# Altium footprint library Library.PcbLib: 22 footprints (part 2 of 2)
Each footprint in its own frame and in the unit in brackets; x right, y up, seen from the top. Pads: shape width x height; smd on the part's side, far side on the other; paste and mask are expansions set on the pad; w line width, h text height; cw(c..) or ccw(c..) is an arc to the next point about the centre after c.
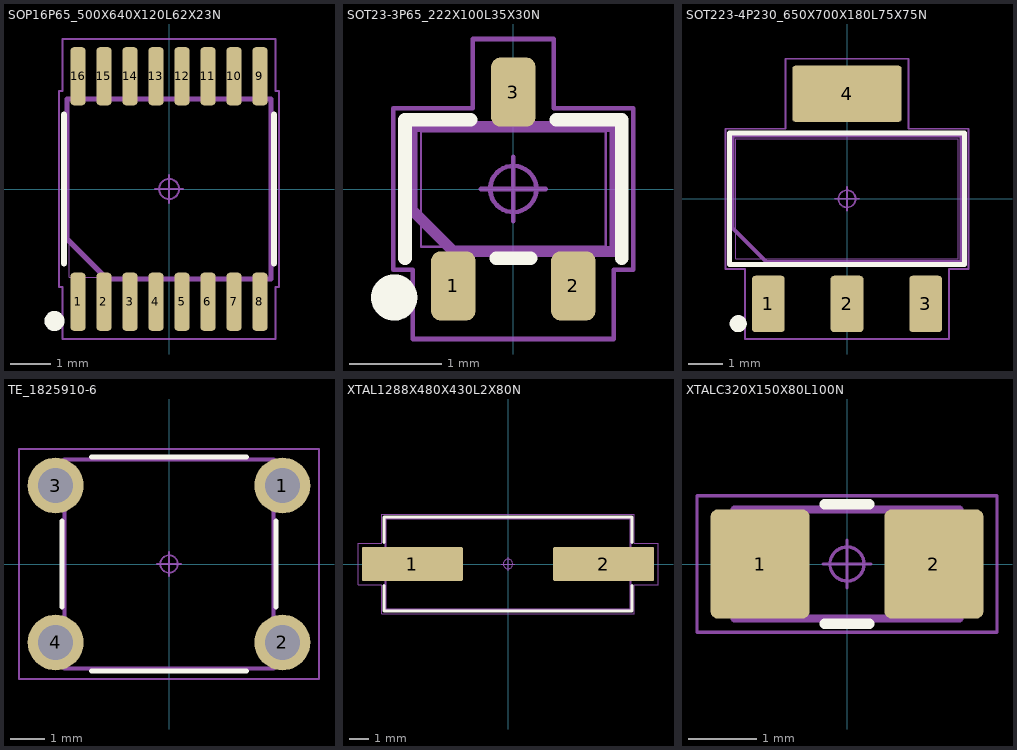
[diagram p1: the footprints below, top view; thin cyan lines are the x and y axes]

## SOP16P65_500X640X120L62X23N [mm] "Small Outline Pkg (SOP), 0.65 mm pitch; 16 pin, 5.00 mm L X 4.40 mm W X 1.20 mm H body"
height 1.2
pads (16):
  rrect53% 0.38x1.46 smd: 1(-2.275,-2.82) 2(-1.625,-2.82) 3(-0.975,-2.82) 4(-0.325,-2.82) 5(0.325,-2.82) 6(0.975,-2.82) 7(1.625,-2.82) 8(2.275,-2.82) 9(2.275,2.82) 10(1.625,2.82) 11(0.975,2.82) 12(0.325,2.82) 13(-0.325,2.82) 14(-0.975,2.82) 15(-1.625,2.82) 16(-2.275,2.82)
Top Overlay:
  circle w0.25: c-2.865,-3.3 r0.125
  lines w0.15: -2.625,-1.865 -2.625,1.865 ; 2.625,-1.865 2.625,1.865
Mechanical 9:
  lines w0.12: -2.55,-1.25 -2.55,2.25 2.55,2.25 2.55,-2.25 -1.55,-2.25 -2.55,-1.25
  text ".Designator" at -4.511,-0.453 h2
Mechanical 11:
  text ".Designator" at -2.704,-0.271 h1.2
Mechanical 15:
  lines w0.05: -2.75,-2.45 -2.665,-2.45 -2.665,-3.75 2.665,-3.75 2.665,-2.45 2.75,-2.45 2.75,2.45 2.665,2.45 2.665,3.75 -2.665,3.75 -2.665,2.45 -2.75,2.45 -2.75,-2.45
Mechanical 17:
  circle w0.05: c0,0 r0.25
  lines w0.05: -0.35,0 0.35,0 ; 0,-0.35 0,0.35
Mechanical 21:
  lines w0.025: -2.5,-2.2 2.5,-2.2 2.5,2.2 -2.5,2.2 -2.5,-2.2 ; -2.392,-3.2 -2.392,-2.575 -2.157,-2.575 -2.157,-3.2 -2.392,-3.2 ; -2.392,2.575 -2.392,3.2 -2.157,3.2 -2.157,2.575 -2.392,2.575 ; -1.743,-3.2 -1.743,-2.575 -1.508,-2.575 -1.508,-3.2 -1.743,-3.2 ; -1.743,2.575 -1.743,3.2 -1.508,3.2 -1.508,2.575 -1.743,2.575 ; -1.092,-3.2 -1.092,-2.575 -0.857,-2.575 -0.857,-3.2 -1.092,-3.2 ; -1.092,2.575 -1.092,3.2 -0.857,3.2 -0.857,2.575 -1.092,2.575 ; -0.443,-3.2 -0.443,-2.575 -0.208,-2.575 -0.208,-3.2 -0.443,-3.2 ; -0.443,2.575 -0.443,3.2 -0.208,3.2 -0.208,2.575 -0.443,2.575 ; 0.208,-3.2 0.208,-2.575 0.443,-2.575 0.443,-3.2 0.208,-3.2 ; 0.208,2.575 0.208,3.2 0.443,3.2 0.443,2.575 0.208,2.575 ; 0.857,-3.2 0.857,-2.575 1.092,-2.575 1.092,-3.2 0.857,-3.2 ; 0.857,2.575 0.857,3.2 1.092,3.2 1.092,2.575 0.857,2.575 ; 1.508,-3.2 1.508,-2.575 1.743,-2.575 1.743,-3.2 1.508,-3.2 ; 1.508,2.575 1.508,3.2 1.743,3.2 1.743,2.575 1.508,2.575 ; 2.157,-3.2 2.157,-2.575 2.392,-2.575 2.392,-3.2 2.157,-3.2 ; 2.157,2.575 2.157,3.2 2.392,3.2 2.392,2.575 2.157,2.575
3D body "MAX3232IPWR.step": height 1.2, standoff 0, extent -2.5,-3.2 2.5,3.2

## SOT23-3P65_222X100L35X30N [mm] "Small Outline Transistor, SOT-23 Type, 0.65 mm pitch; 3 pin, 2.00 mm L X 1.25 mm W X 1.00 mm H body"
height 1
pads (3):
  rrect42% 0.48x0.75 smd: 1(-0.65,-1.05) 2(0.65,-1.05) 3(0,1.05)
Top Overlay:
  circle w0.25: c-1.29,-1.175 r0.125
  lines w0.15: -1.175,-0.75 -1.175,0.75 -0.465,0.75 ; -0.185,-0.75 0.185,-0.75 ; 0.465,0.75 1.175,0.75 1.175,-0.75
Mechanical 9:
  lines w0.12: -1.1,-0.225 -0.65,-0.675 1.1,-0.675 1.1,0.675 -1.1,0.675 -1.1,-0.225
  text ".Designator" at -1.961,-0.197 h0.87
Mechanical 11:
  text ".Designator" at -2.704,-0.271 h1.2
Mechanical 15:
  lines w0.05: -1.3,-0.875 -1.3,0.875 -0.44,0.875 -0.44,1.625 0.44,1.625 0.44,0.875 1.3,0.875 1.3,-0.875 1.09,-0.875 1.09,-1.625 -1.09,-1.625 -1.09,-0.875 -1.3,-0.875
Mechanical 17:
  circle w0.05: c0,0 r0.25
  lines w0.05: -0.35,0 0.35,0 ; 0,-0.35 0,0.35
Mechanical 21:
  lines w0.025: -1,-0.625 -1,0.625 1,0.625 1,-0.625 -1,-0.625 ; -0.8,-1.112 -0.5,-1.112 -0.5,-0.757 -0.8,-0.757 -0.8,-1.112 ; -0.15,0.757 0.15,0.757 0.15,1.112 -0.15,1.112 -0.15,0.757 ; 0.5,-1.112 0.8,-1.112 0.8,-0.757 0.5,-0.757 0.5,-1.112
3D body "BSS138W-7-F.STEP": height 1.1, standoff 0, extent -1.075,-1.05 1.075,1.05

## SOT223-4P230_650X700X180L75X75N [mm] "Small Outline Transistor, SOT-223 Type, 2.30 mm pitch; 4 pin, 6.50 mm L X 3.50 mm W X 1.80 mm H body"
height 1.8
pads (4):
  rrect21% 0.96x1.65 smd: 1(-2.3,-3.073) 2(0,-3.073) 3(2.3,-3.073)
  rrect12% 3.2x1.65 smd: 4(0,3.073)
Top Overlay:
  circle w0.25: c-3.18,-3.65 r0.125
  lines w0.15: -3.43,-1.925 -3.43,1.925 3.43,1.925 3.43,-1.925 -3.43,-1.925
Mechanical 9:
  lines w0.12: -3.35,-0.85 -2.35,-1.85 3.35,-1.85 3.35,1.85 -3.35,1.85 -3.35,-0.85
  text ".Designator" at -4.511,-0.453 h2
Mechanical 11:
  text ".Designator" at -2.704,-0.271 h1.2
Mechanical 15:
  lines w0.05: -3.55,-2.05 -3.55,2.05 -1.8,2.05 -1.8,4.098 1.8,4.098 1.8,2.05 3.55,2.05 3.55,-2.05 2.98,-2.05 2.98,-4.098 -2.98,-4.098 -2.98,-2.05 -3.55,-2.05
Mechanical 17:
  circle w0.05: c0,0 r0.25
  lines w0.05: -0.35,0 0.35,0 ; 0,-0.35 0,0.35
Mechanical 21:
  lines w0.025: -3.25,-1.75 -3.25,1.75 3.25,1.75 3.25,-1.75 -3.25,-1.75 ; -2.675,-3.5 -1.925,-3.5 -1.925,-2.75 -2.675,-2.75 -2.675,-3.5 ; -1.5,2.75 1.5,2.75 1.5,3.5 -1.5,3.5 -1.5,2.75 ; -0.375,-3.5 0.375,-3.5 0.375,-2.75 -0.375,-2.75 -0.375,-3.5 ; 1.925,-3.5 2.675,-3.5 2.675,-2.75 1.925,-2.75 1.925,-3.5
3D body "LM1117MPX-3.3_NOPB.stp": height 1.68, standoff 0, extent -3.25,-3.5 3.25,3.5

## TE_1825910-6 [mm] "Switches Tactile Switches; 4 pin, 5.99 mm L X 5.99 mm W X 5.00 mm H body"
height 5
pads (4):
  round 1.6 hole 1 paste-2539.97 mask+0.05: 1(3.25,2.25) 2(3.25,-2.25) 3(-3.25,2.25) 4(-3.25,-2.25)
Top Overlay:
  lines w0.15: -3.07,-1.225 -3.07,1.225 ; -2.225,-3.07 2.225,-3.07 ; -2.225,3.07 2.225,3.07 ; 3.07,-1.225 3.07,1.225
Mechanical 9:
  lines w0.12: -2.995,-2.995 2.995,-2.995 2.995,2.995 -2.995,2.995 -2.995,-2.995
  text ".Designator" at -4.511,-0.453 h2
Mechanical 11:
  text ".Designator" at -2.704,-0.271 h1.2
Mechanical 15:
  lines w0.05: -4.3,-3.3 -4.3,3.3 4.3,3.3 4.3,-3.3 -4.3,-3.3
Mechanical 17:
  circle w0.05: c0,0 r0.25
  lines w0.05: -0.35,0 0.35,0 ; 0,-0.35 0,0.35
Mechanical 21:
  lines w0.025: -2.995,-2.995 2.995,-2.995 2.995,2.995 -2.995,2.995 -2.995,-2.995
3D body "1825910-6.STEP": height 5.02, standoff -3.5, extent -3.898,-2.995 3.9,2.995

## XTAL1288X480X430L2X80N [mm] "SMD Crystal; 12.88 mm L X 4.80 mm W X 4.30 mm H body"
height 4.3
pads (2):
  rrect11% 5.33x1.8 smd: 1(-5.025,0) 2(5.025,0)
Top Overlay:
  lines w0.15: -6.52,-1.125 -6.52,-2.48 6.52,-2.48 6.52,-1.125 ; -6.52,1.125 -6.52,2.48 6.52,2.48 6.52,1.125
Mechanical 9:
  lines w0.12: -6.445,-2.405 6.445,-2.405 6.445,2.405 -6.445,2.405 -6.445,-2.405
  text ".Designator" at -4.511,-0.453 h2
Mechanical 11:
  text ".Designator" at -2.704,-0.271 h1.2
Mechanical 15:
  lines w0.05: -7.89,-1.1 -6.645,-1.1 -6.645,-2.605 6.645,-2.605 6.645,-1.1 7.89,-1.1 7.89,1.1 6.645,1.1 6.645,2.605 -6.645,2.605 -6.645,1.1 -7.89,1.1 -7.89,-1.1
Mechanical 17:
  circle w0.05: c0,0 r0.25
  lines w0.05: -0.35,0 0.35,0 ; 0,-0.35 0,0.35
Mechanical 21:
  lines w0.025: -6.94,-0.4 -6.94,0.4 -2.44,0.4 -2.44,-0.4 -6.94,-0.4 ; -6.44,-2.4 6.44,-2.4 6.44,2.4 -6.44,2.4 -6.44,-2.4 ; 2.44,-0.4 6.94,-0.4 6.94,0.4 2.44,0.4 2.44,-0.4
3D body "Crystal 49SMT H4,3mm.stp": height 4.3, standoff 0, extent -6.4,-2.415 6.4,2.415

## XTALC320X150X80L100N [mm] "Crystal, Chip; 3.20 mm L X 1.50 mm W X 0.80 mm H body"
height 0.8
pads (2):
  rrect14% 1.45x1.6 smd: 1(-1.275,0) 2(1.275,0)
Top Overlay:
  lines w0.15: -0.325,-0.875 0.325,-0.875 ; -0.325,0.875 0.325,0.875
Mechanical 9:
  lines w0.12: -1.65,-0.8 -1.65,0.8 1.65,0.8 1.65,-0.8 -1.65,-0.8
  text ".Designator" at -2.524,-0.253 h1.12
Mechanical 11:
  text ".Designator" at -2.704,-0.271 h1.2
Mechanical 15:
  lines w0.05: -2.2,-1 -2.2,1 2.2,1 2.2,-1 -2.2,-1
Mechanical 17:
  circle w0.05: c0,0 r0.25
  lines w0.05: -0.35,0 0.35,0 ; 0,-0.35 0,0.35
Mechanical 21:
  lines w0.025: -1.6,-0.75 -0.6,-0.75 -0.6,0.75 -1.6,0.75 ; -1.6,-0.75 -1.6,0.75 ; -1.6,-0.75 -1.6,0.75 ; -1.6,-0.75 1.6,-0.75 ; -1.6,0.75 1.6,0.75 ; 1.6,-0.75 1.6,0.75 ; 1.6,-0.75 0.6,-0.75 0.6,0.75 1.6,0.75 ; 1.6,-0.75 1.6,0.75
3D body "Crystal_3215.stp": height 0.84, standoff 0.01, extent -1.6,-0.75 1.6,0.75